# EAGLE library part PCA9531 (library omcOpto)
HPCA9531 - 8-bit I2C-bus LED dimmer Eight LED drivers (on, off, flashing at a programmable rate) Two selectable, fully programmable blink rates (frequency and duty cycle) between 0.59 Hz and 152 Hz (1.69 second and 6.58 milliseconds) 256 brightness steps Input/outputs not used as LED drivers can be used as regular GPIOs Internal oscillator requires no external components I2C-bus interface logic compatible with SMBus Internal power-on reset NXP Datasheet <http://www.nxp.com/documents/data_sheet/PCA9531.pdf> Conrad Datasheet <http://www.produktinfo.conrad.com/datenblaetter/1100000-1199999/001116597-da-01-en-IC_LED_TREIBE_R_PCA9531D_112_SOIC_16_NXP.pdf>
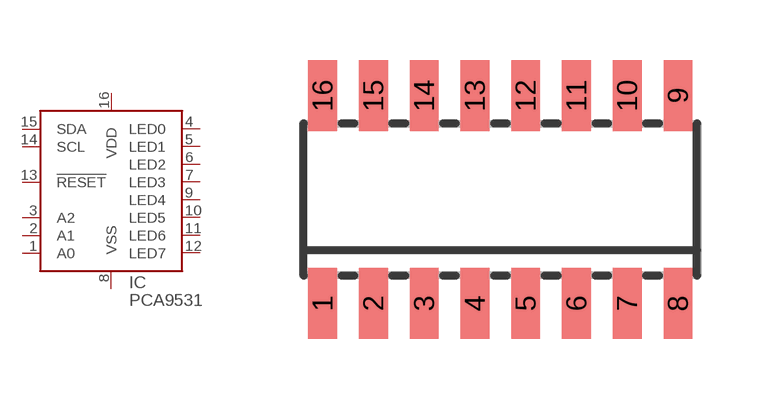
[diagram p2: symbol with the pads of SOIC16; footprint SOIC16]

Designator prefix IC

## PCA9531D (DIST#CONRAD#: 1116597 - 62; VALUE: PCA9531; VENDOR#: NXP,PCA9531D)  [SOIC16]
1  A0  pas
2  A1  pas
3  A2  pas
4  LED0
5  LED1
6  LED2
7  LED3
8  VSS  pwr
9  LED4
10  LED5
11  LED6
12  LED7
13  !RESET  pas
14  SCL  oc
15  SDA  oc
16  VDD  pwr

## Footprint SOIC16 (pad centres in mm)
SOIC16 SMD 9.8mm×6.2mm Mechanical <https://www.centralsemi.com/PDFs/case/SOIC-16PD.PDF> Wikipedia <https://en.wikipedia.org/wiki/Small_Outline_Integrated_Circuit>
smd 0.72 x 1.78: 1 -4.445,-2.6; 2 -3.175,-2.6; 3 -1.905,-2.6; 4 -0.635,-2.6; 5 0.635,-2.6; 6 1.905,-2.6; 7 3.175,-2.6; 8 4.445,-2.6; 9 4.445,2.6; 10 3.175,2.6; 11 1.905,2.6; 12 0.635,2.6; 13 -0.635,2.6; 14 -1.905,2.6; 15 -3.175,2.6; 16 -4.445,2.6